# Altium footprint library AOD409.PcbLib: 1 footprints
Each footprint in its own frame and in the unit in brackets; x right, y up, seen from the top. Pads: shape width x height; smd on the part's side, far side on the other; paste and mask are expansions set on the pad; w line width, h text height; cw(c..) or ccw(c..) is an arc to the next point about the centre after c.
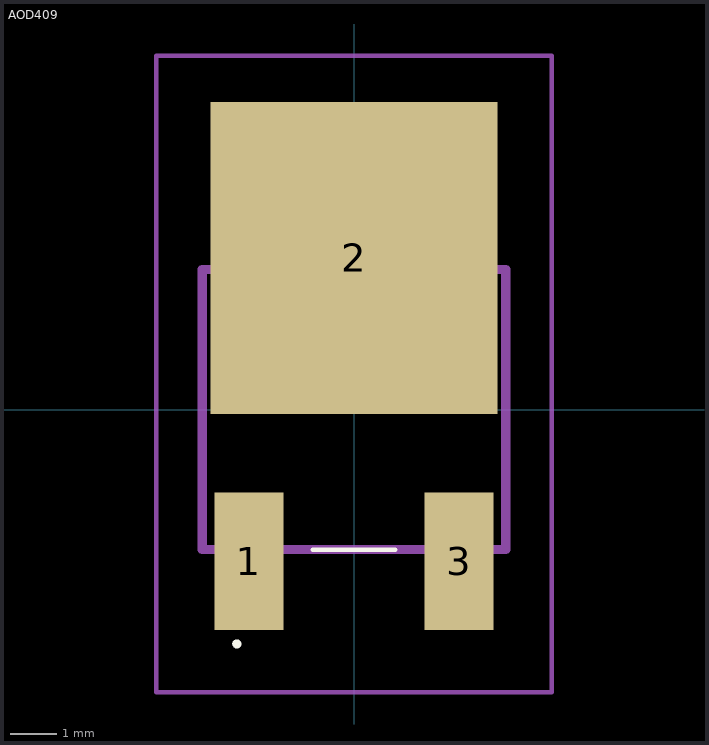
[diagram p0: the footprint, top view; thin cyan lines are the x and y axes]

## AOD409 [mm]
pads (3):
  rect 1.5x3 smd: 1(-2.286,-3.3) 3(2.286,-3.3)
  rect 6.25x6.8 smd: 2(0,3.3)
Top Overlay:
  lines w0.1: -0.9,-3.048 0.9,-3.048 ; -2.6,-5.1 ccw(c-2.55,-5.1) -2.5,-5.1 ccw(c-2.55,-5.1) -2.6,-5.1
Mechanical 15:
  lines w0.2: -3.302,-3.048 3.302,-3.048 3.302,3.048 -3.302,3.048 -3.302,-3.048
Mechanical 20:
  lines w0.1: -4.302,-6.15 4.302,-6.15 4.302,7.7 -4.302,7.7 -4.302,-6.15
3D body "AOD409.stp": height 2.3, standoff -0.09, extent -3.293,-3.937 3.293,6.096